# Altium schematic symbol library 3225-25M-SR.SchLib: 1 symbol
Pins are listed as number, name and electrical type; pins without a type are passive.

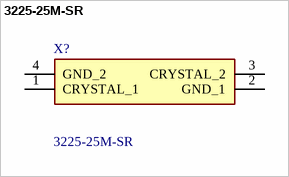
[diagram p0: symbol 3225-25M-SR]

## 3225-25M-SR
designator X?
Resonator: quartz; 25MHz; +/-10ppm; 9pF; SMD; 3.2x2.5x0.7mm; Manufacturer_Name: SRPASSIVES; Geometry.Height: 0.7mm; TME Electronic Components Part Number: *; TME Electronic Components Price/Stock: *; Manufacturer_Part_Number: 3225-25M-SR; Datasheet Link: https://www.tme.eu/Document/9cb2d0edad968d8543e7bc99995fd180/3235.pdf
footprint 322525MSR
pins: 1 CRYSTAL_1, 2 GND_1, 3 CRYSTAL_2, 4 GND_2